# Altium schematic symbol library Master-Slave.SCHLIB: 42 symbols
Pins are listed as number, name and electrical type; pins without a type are passive.

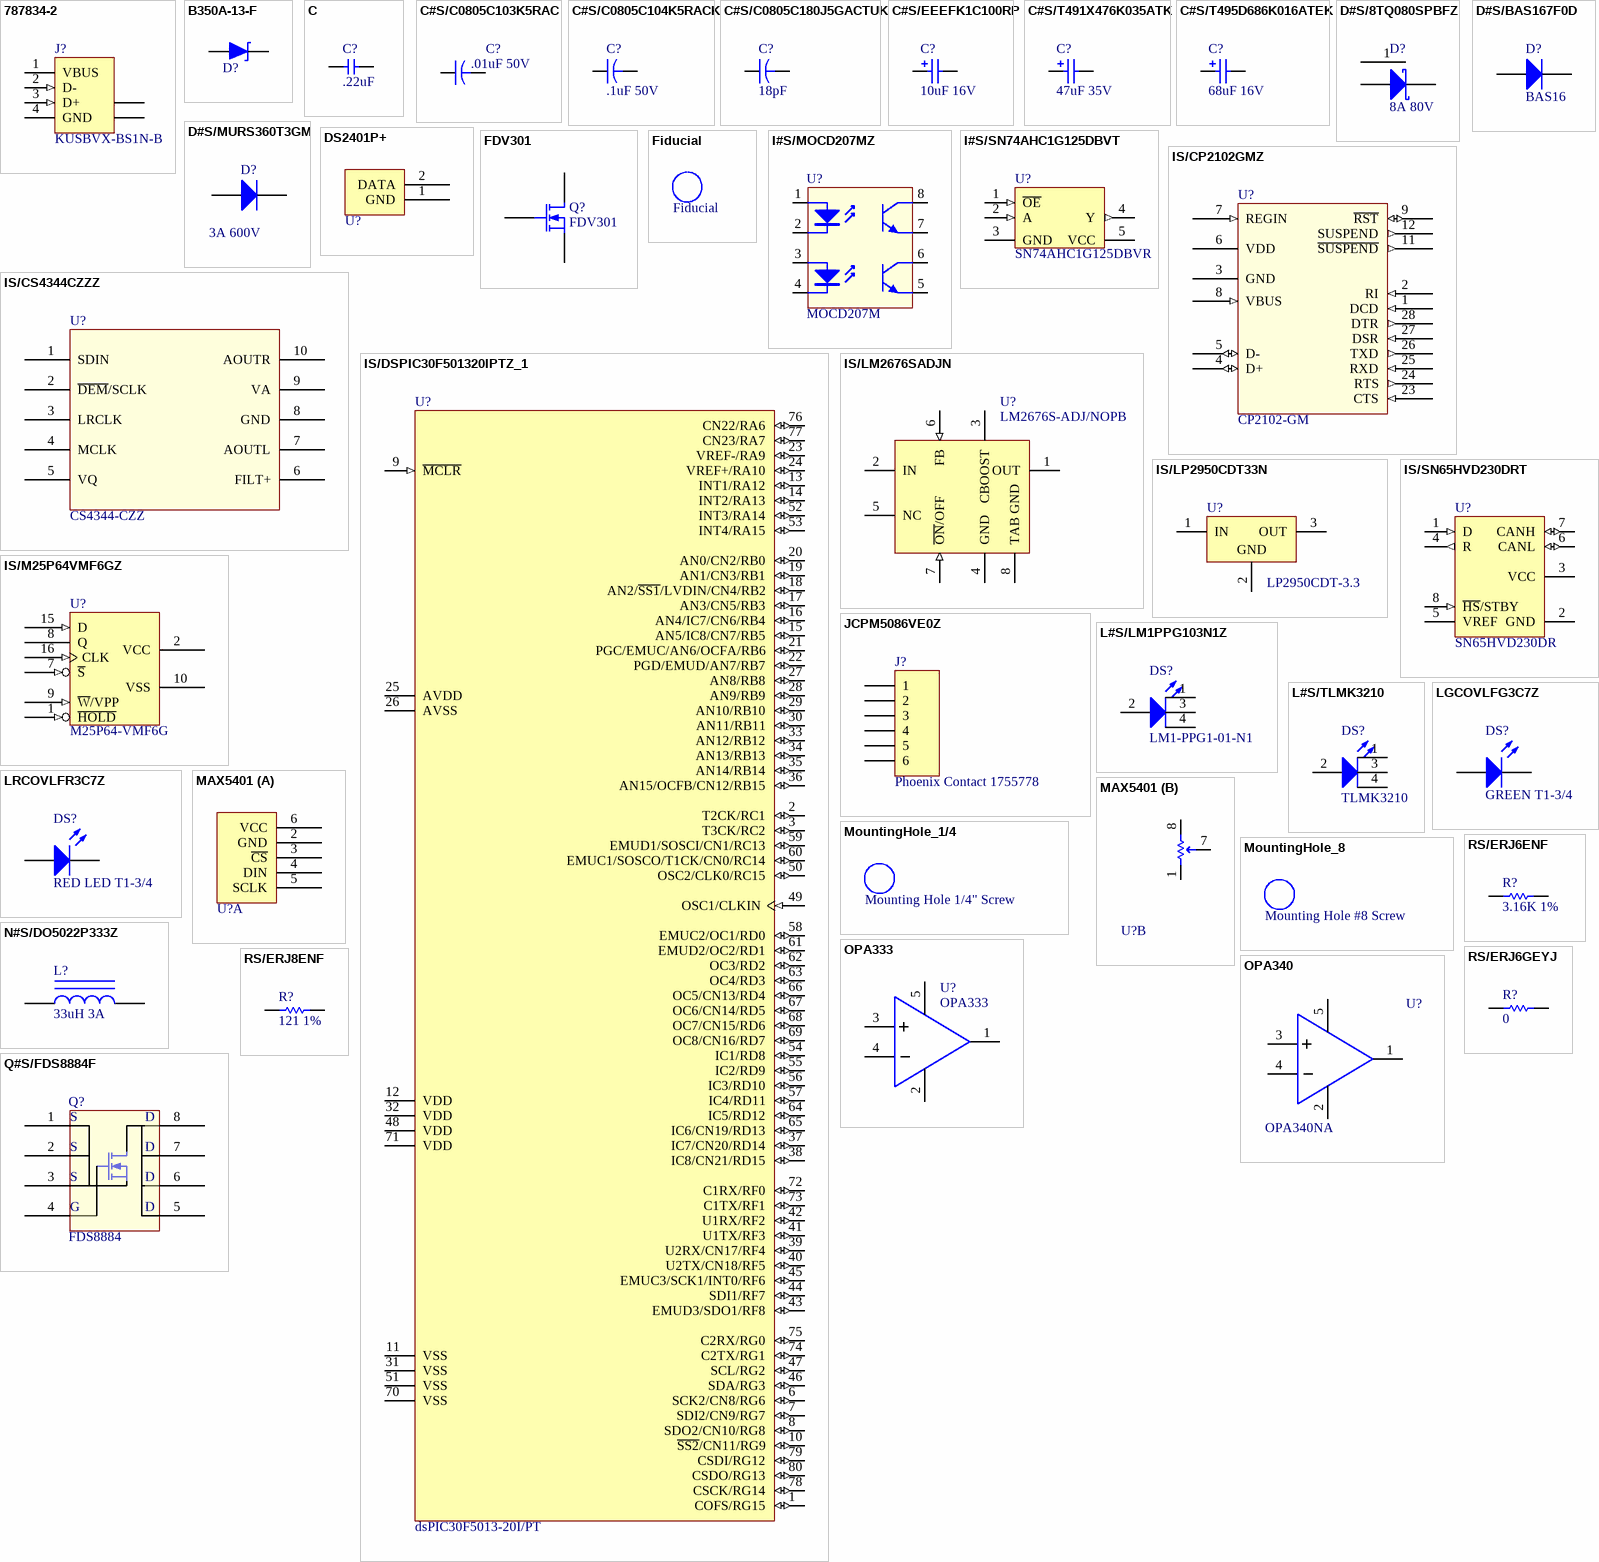
[diagram p0: symbols 787834-2 to RS/ERJ8ENF]

## 787834-2
designator J?, comment KUSBVX-BS1N-B
USB Connectors B TYPE VERT BLK SKT; Manufacturer: Kycon; Source Part Number: 806-KUSBVX-BS1N-B; Manufacturer Part Number: KUSBVX-BS1N-B; Source: Mouser; ROHS Certificate: ROHS-KYCON.pdf; Value: USB Connectors B TYPE VERT BLK SKT
footprint 787834 (Connector; USB1.1, Type B, Thru-Hole; 4 Position; Vertical)
signal-integrity model USB1.1
footprint KUSBVX-BS1N (USB Type B PCB)
pins: 1 VBUS (power) "Power", 2 D- (in) "-DATA", 3 D+ (in) "+DATA", 4 GND (power) "Ground", 5 SHLD "Shield", 6 SHLD "Shield"

## B350A-13-F
designator D?, comment DIODE SCHOTTKY 3A 50V SMA  (value not drawn)
Source Part Number: B350A-FDICT-ND; Manufacturer: Diodes Inc; Manufacturer Part Number: B350A-13-F; Source: Digikey; ROHS Certificate: ROHS-DIODE-INC.pdf; Value: DIODE SCHOTTKY 3A 50V SMA
footprint SMA (DO-214-AC/SMA; 2 C-Bend Leads; Body 5 x 2.7 mm, inc. leads (LxW))
pins: A, C

## C
designator C?, comment value .22uF  (hidden comment: CAP .22UF 25V CERAMIC X7R 0805)
Manufacturer: Panasonic - ECG; Manufacturer Part Number: ECJ-2YB1E224K; Source Part Number: PCC1832CT-ND; Source: DIGIKEY; ROHS Certificate: ROHS-PANASONIC.pdf
footprint 0603 (0603 Generic)
footprint 0805 (0805 Generic)
footprint 1206 (1206 Generic)
footprint C0805
pins: 1, 2

## C#S/C0805C103K5RAC
designator C?, comment .01uF 50V
CAP 10000PF 50V CERAMIC X7R 0805; Manufacturer: Kemet; Manufacturer Part Number: C0805C103K5RACTU; Source Part Number: 399-1158-1-ND; Source: Digikey; ROHS Certificate: ROHS-KEMET-CERAMIC.PDF; Value: CAP 10000PF 50V CERAMIC X7R 0805
simulation model CAP (Capacitor)
signal-integrity model Cap
footprint C0805
pins: 1, 2

## C#S/C0805C104K5RACK
designator C?, comment .1uF 50V
CAP .10UF 50V CERAMIC X7R 0805; Manufacturer: Kemet; Manufacturer Part Number: C0805C104K5RACTU; Source Part Number: 399-1170-1-ND; Source: Digikey; ROHS Certificate: ROHS-KEMET-CERAMIC.PDF; Value: CAP .10UF 50V CERAMIC X7R 0805
simulation model CAP (Capacitor)
signal-integrity model Cap
footprint C0805
pins: 1, 2

## C#S/C0805C180J5GACTUK
designator C?, comment 18pF
CAP CERAMIC 18PF 50V NP0 0805; Manufacturer: Kemet; Manufacturer Part Number: C0805C180J5GACTU; Source Part Number: 399-1112-1-ND; Source: Digikey; ROHS Certificate: ROHS-KEMET-CERAMIC.pdf; Value: CAP CERAMIC 18PF 50V NP0 0805
simulation model CAP (Capacitor)
signal-integrity model Cap
footprint C0805
pins: 1, 2

## C#S/EEEFK1C100RP
designator C?, comment 10uF 16V
CAP ELECT 10UF 16V FK SMD; Manufacturer: Panasonic - ECG; Manufacturer Part Number: EEE-FK1C100R; Source Part Number: PCE3782CT-ND; Source: Digikey; ROHS Certificate: ROHS-PANASONIC.pdf; Value: CAP ELECT 10UF 16V FK SMD
simulation model CAP (Capacitor)
signal-integrity model Cap Pol
footprint C4X5.8
pins: 1, 2
1 alternate drawing of the same symbol

## C#S/T491X476K035ATK
designator C?, comment 47uF 35V
CAPACITOR TANT 47UF 35V 10% SMD 7343-43 (EIA); Manufacturer: Kemet; Manufacturer Part Number: T491X476K035AT; Source Part Number: 399-3821-1-ND; Value: 47uF 35V; Source: Digikey; ROHS Certificate: ROHS-KEMET-TANTALUM.pdf
simulation model CAP (Capacitor)
signal-integrity model T491X
footprint C EIA7343-43 (X) (Capacitor, SM Tantalum; Body 7.3 x 4.3 mm (LxW typ))
footprint CAPACITOR TANT 47UF 35V 10% SMD 7343-43 (EIA
pins: 1, 2
1 alternate drawing of the same symbol

## C#S/T495D686K016ATEK
designator C?, comment 68uF 16V
CAPACITOR TANT 68UF 16V 10% SMD; Manufacturer: Kemet; Manufacturer Part Number: T495D686K016ATE150; Source Part Number: 399-3889-1-ND; Value: CAPACITOR TANT 68UF 16V 10% SMD; Source: Digikey; ROHS Certificate: ROHS-KEMET-TANTALUM.pdf
footprint D (Capacitor, SM Tantalum; Body 7.3 x 4.3 mm (LxW typ))
simulation model CAP (Capacitor)
signal-integrity model T495D
footprint C7343
pins: 1, 2
1 alternate drawing of the same symbol

## D#S/8TQ080SPBFZ
designator D?, comment 8A 80V
DIODE SCHOTTKY 80V 8A D2PAK; Manufacturer: Vishay IR; Manufacturer Part Number: 8TQ080SPBF; Source Part Number: 8TQ080SPBF-ND; Source: Digikey; ROHS Certificate: ROHS-IRF.pdf; Value: DIODE SCHOTTKY 80V 8A D2PAK
simulation model SKYDIODE (Diode)
signal-integrity model D Schottky
footprint D2PAK
footprint Model Name (Model Description)
pins: 1 NC, 2 K, 3 A

## D#S/BAS167F0D
designator D?, comment BAS16
Diodes Inc BAS16 75V 200mA; Manufacturer Part Number: BAS16-7-F; Manufacturer: Diodes Inc; Source: Digikey; Source Part Number: BAS16-7-F; ROHS Certificate: ROHS-DIODES-INC.pdf; Value: Diodes Inc BAS16 75V 200mA
simulation model BAS16 (SUBCKT)
footprint SOT23 (SOT-23; 3 Leads; Body 3.1 x 2.5 mm, inc. leads (LxW max), Alternate Lead Configuration)
pins: 1 A, 3 K

## D#S/MURS360T3GM
designator D?, comment value 3A 600V  (hidden comment: DIODE ULTRA FAST 3A 600V SMC)
Manufacturer: ON Semiconductor; Manufacturer Part Number: MURS360T3G; Source Part Number: MURS360T3GOSCT-ND; Source: Digikey; ROHS Certificate: ROHS-ON-SEMI.PDF
simulation model BAS16 (SUBCKT)
footprint DIODE_SMC (Diode)
pins: A, K

## DS2401P+
designator U?, comment IC SILICON SERIAL NUMBER 6-TSOC  (value not drawn)
Source Part Number: DS2401P+-ND; Manufacturer: Dallas Semiconductor; Manufacturer Part Number: DS2401P+; Value: DS2401P+; Source: Digikey; ROHS Certificate: ROHS-DS2401P+.pdf
footprint TSOC6 (THIN SMALL OUTLINE C-LEAD)
pins: 1 GND, 2 DATA

## FDV301
designator Q?
MOSFET N-CH 25V 220MA SOT-23; Manufacturer: Fairchild Semiconductor; Manufacturer Part Number: FDV301N; Source Part Number: FDV301NCT-ND; Source: Digikey; ROHS Certificate: ROHS-FAIRCHILD.pdf; Value: FDV301
footprint SOT95P245X145-3L (SOT23, 3-Leads, Body 3.1x2.6mm (max), Pitch 0.95mm, IPC High Density)
pins: 1 G, 2 S, 3 D

## Fiducial
designator FID?  (no BOM)
Manufacturer: Manufacturer; Manufacturer Part Number: Manufacturer Part Number; Source: Source; Source Part Number: Source Part Number; ROHS Certificate: ROHS Certificate; Value: Value
footprint Fiducial

## I#S/MOCD207MZ
designator U?, comment MOCD207M
OPTOCOUPLER TRANS-OUT 2CH 8-SOIC; Manufacturer: Fairchild Optoelectronics Group; Source Part Number: MOCD207M-ND; Manufacturer Part Number: MOCD207M; Source: Digikey; ROHS Certificate: ROHS-FAIRCHILD.pdf; Value: OPTOCOUPLER TRANS-OUT 2CH 8-SOIC
footprint SOIC 8 (Small Outline; 8 Leads; Body Width 3.9 mm; Pitch 1.27 mm)
pins: 1 "Anode", 2 "Cathode", 3, 4, 5, 6 "Collector", 7, 8 "Collector"

## I#S/SN74AHC1G125DBVT
designator U?, comment SN74AHC1G125DBVR
TI Tri State Buffer Single Gate; Manufacturer: Texas Instruments; Source Part Number: 296-8744-1-ND; Manufacturer Part Number: SN74AHC1G125DBVR; Source: Digikey; ROHS Certificate: ROHS-TI.pdf; Value: SN74AHC1G125DBVR
footprint SOT23-5 (SOT-23/SC-74A; 5 Leads; Body 3 x 3 mm, inc. leads (LxW max))
pins: 1 ~{OE} (in), 2 A (in), 3 GND (power), 4 Y (out), 5 VCC (power)

## IS/CP2102GMZ
designator U?, comment CP2102-GM
IC USB-TO-UART BRIDGE 28MLP; Manufacturer: Silicon Labs; Source Part Number: 336-1160-ND; Manufacturer Part Number: CP2102-GM; Source: Digikey; ROHS Certificate: ROHS-SILICONLABS.pdf; Value: IC USB-TO-UART BRIDGE 28MLP
footprint QFN28 (Quad Flat No Lead, Plastic, Punch; 28 Terminals; Body 5 x 5 mm; Pitch 0.5 mm)
pins: 1 DCD (in), 2 RI (in), 3 GND (power), 4 D+ (io), 5 D- (io), 6 VDD (power), 7 REGIN (in), 8 VBUS (in), 9 ~{RST} (io), 11 ~{SUSPEND} (out), 12 SUSPEND (out), 23 CTS (in), 24 RTS (out), 25 RXD (in), 26 TXD (out), 27 DSR (in), 28 DTR (out)

## IS/CS4344CZZZ
designator U?, comment CS4344-CZZ
IC DAC 24BIT 192KHZ 10-TSSOP; Manufacturer: Cirrus Logic Inc; Source Part Number: 598-1051-5-ND; Manufacturer Part Number: CS4344-CZZ; Source: Digikey; ROHS Certificate: ROHS-CIRRUS-LOGIC.pdf; Value: IC DAC 24BIT 192KHZ 10-TSSOP
footprint TSSOP\10 (T Shrink Small Outline; 10 Leads; Body Width 3 mm; Pitch 0.5 mm)
pins: 1 SDIN, 2 ~{DEM}/SCLK, 3 LRCLK, 4 MCLK, 5 VQ, 6 FILT+, 7 AOUTL, 8 GND, 9 VA, 10 AOUTR

## IS/DSPIC30F501320IPTZ_1
designator U?, comment dsPIC30F5013-20I/PT
IC DSPIC MCU/DSP 144K 80TQFP; Manufacturer: Microchip Technology; Manufacturer Part Number: DSPIC30F6014A-30I/PT; Source Part Number: DSPIC30F6014A30IP-ND; Source: Digikey; ROHS Certificate: ROHS-MICROCHIP.pdf; Value: IC DSPIC MCU/DSP 144K 80TQFP
footprint TQFP-80 (QFP, Plastic, Thin; 80 Leads; Body 12 x 12 mm; Pitch 0.5 mm; Lead Form 1.0/0.1 mm)
pins: 1 COFS/RG15 (io), 2 T2CK/RC1 (io), 3 T3CK/RC2 (io), 6 SCK2/CN8/RG6 (io), 7 SDI2/CN9/RG7 (io), 8 SDO2/CN10/RG8 (io), 9 ~{MCLR} (in), 10 ~{SS2}/CN11/RG9 (io), 11 VSS (power), 12 VDD (power), 13 INT1/RA12 (io), 14 INT2/RA13 (io), 15 AN5/IC8/CN7/RB5 (io), 16 AN4/IC7/CN6/RB4 (io), 17 AN3/CN5/RB3 (io), 18 AN2/~{SS1}/LVDIN/CN4/RB2 (io), 19 AN1/CN3/RB1 (io), 20 AN0/CN2/RB0 (io), 21 PGC/EMUC/AN6/OCFA/RB6 (io), 22 PGD/EMUD/AN7/RB7 (io), 23 VREF-/RA9 (io), 24 VREF+/RA10 (io), 25 AVDD (power), 26 AVSS (power), 27 AN8/RB8 (io), 28 AN9/RB9 (io), 29 AN10/RB10 (io), 30 AN11/RB11 (io), 31 VSS (power), 32 VDD (power), 33 AN12/RB12 (io), 34 AN13/RB13 (io), 35 AN14/RB14 (io), 36 AN15/OCFB/CN12/RB15 (io), 37 IC7/CN20/RD14 (io), 38 IC8/CN21/RD15 (io), 39 U2RX/CN17/RF4 (io), 40 U2TX/CN18/RF5 (io), 41 U1TX/RF3 (io), 42 U1RX/RF2 (io), 43 EMUD3/SDO1/RF8 (io), 44 SDI1/RF7 (io), 45 EMUC3/SCK1/INT0/RF6 (io), 46 SDA/RG3 (io), 47 SCL/RG2 (io), 48 VDD (power), 49 OSC1/CLKIN (in), 50 OSC2/CLK0/RC15 (io), 51 VSS (power), 52 INT3/RA14 (io), 53 INT4/RA15 (io), 54 IC1/RD8 (io), 55 IC2/RD9 (io), 56 IC3/RD10 (io), 57 IC4/RD11 (io), 58 EMUC2/OC1/RD0 (io), 59 EMUD1/SOSCI/CN1/RC13 (io), 60 EMUC1/SOSCO/T1CK/CN0/RC14 (io), 61 EMUD2/OC2/RD1 (io), 62 OC3/RD2 (io), 63 OC4/RD3 (io), 64 IC5/RD12 (io), 65 IC6/CN19/RD13 (io), 66 OC5/CN13/RD4 (io), 67 OC6/CN14/RD5 (io), 68 OC7/CN15/RD6 (io), 69 OC8/CN16/RD7 (io), 70 VSS (power), 71 VDD (power), 72 C1RX/RF0 (io), 73 C1TX/RF1 (io), 74 C2TX/RG1 (io), 75 C2RX/RG0 (io), 76 CN22/RA6 (io), 77 CN23/RA7 (io), 78 CSCK/RG14 (io), 79 CSDI/RG12 (io), 80 CSDO/RG13 (io)

## IS/LM2676SADJN
designator U?, comment LM2676S-ADJ/NOPB
IC REG SIMPLE SWITCHER TO-263-7; Manufacturer: National Semiconductor; Source Part Number: LM2676S-ADJ-ND; Manufacturer Part Number: LM2676S-ADJ/NOPB; Source: Digikey; ROHS Certificate: ROHS-LM2676SD-ADJNOPB.pdf; Value: IC REG SIMPLE SWITCHER TO-263-
footprint TO263\7
pins: 1 OUT (power), 2 IN (power), 3 CBOOST (power), 4 GND (power), 5 NC, 6 FB (in), 7 ~{ON}/OFF (in), 8 TAB GND (power)

## IS/LP2950CDT33N
designator U?, comment LP2950CDT-3.3
IC REG VOLT MICROPWR 3.3V TO-252; Manufacturer: National Semiconductor; Manufacturer Part Number: LP2950CDT-3.3/NOPB; Source Part Number: LP2950CDT-3.3-ND; Source: Digikey; ROHS Certificate: ROHS-LP2950CDT-3.3NOPB.pdf; Value: IC REG VOLT MICROPWR 3.3V TO-252
footprint D-PAK / TO-252AA (D-PAK/TO-252-AA; 3 Leads (1 Cropped); Body 10.4 (inc. leads) x 6.7 mm (LxW max))
pins: 1 IN (power), 2 GND (power), 3 OUT (power)

## IS/M25P64VMF6GZ
designator U?, comment M25P64-VMF6G
64 MBit Serial SPI NOR FLASH; Manufacturer: STMicroelectronics / Numonyx; Manufacturer Part Number: M25P64-VMF6P; Source: Mouser; Source Part Number: M25P64-VMF6P; ROHS Certificate: ROHS-NUMONYX.pdf; Value: 64 MBit Serial SPI NOR FLASH
footprint SOIC 16 (Small Outline; 16 Leads; Body Width 3.9 mm; Pitch 1.27 mm)
footprint so16w
pins: 1 ~{HOLD} (in), 2 VCC (power), 7 ~{S} (in), 8 Q (hiz), 9 ~{W}/VPP (in), 10 VSS (power), 15 D (in), 16 CLK (in)

## IS/SN65HVD230DRT
designator U?, comment SN65HVD230DR
IC 3.3V CAN TXRX W/STNDBY 8-SOIC; Manufacturer: Texas Instruments; Source Part Number: 296-11654-2-ND; Manufacturer Part Number: SN65HVD230DR; Source: Digikey; ROHS Certificate: ROHS-SN65HVD230DR.pdf; Value: IC 3.3V CAN TXRX W/STNDBY 8-SOIC
footprint SOIC 8 (Small Outline; 8 Leads; Body Width 3.9 mm; Pitch 1.27 mm)
pins: 1 D (in), 2 GND (power), 3 VCC (power), 4 R (out), 5 VREF, 6 CANL (io), 7 CANH (io), 8 ~{HS}/STBY (in)

## JCPM5086VE0Z
designator J?, comment Phoenix Contact 1755778
CONN HEADER VERT 6POS 5.08MM; Source Part Number: 277-1154-ND; Manufacturer: Phoenix Contact; Manufacturer Part Number: 1755778; Source: Digikey; ROHS Certificate: ROHS-PHOENIX.pdf; Value: CONN HEADER VERT 6POS 5.08MM
signal-integrity model Connector
footprint JCPM5086VE0Z (ASI term strip header 6P 5.08mm Vert)
pins: 1, 2, 3, 4, 5, 6

## L#S/LM1PPG103N1Z
designator DS?, comment LM1-PPG1-01-N1
120-degree, 3.3 x 3.5-mm, SMT LED in green color with water-transparent lens; Manufacturer: Cree; Manufacturer Part Number: LM1-PPG1-01-N1; Source: Marktech Optoelectronics; Source Part Number: LM1-PPG1-01-N1; ROHS Certificate: ROHS-CREE.pdf; Value: 120-degree, 3.3 x 3.5-mm, SMT LED in green color with water-transparent lens
simulation model LED1 (Diode)
footprint L#S/TLMK3210Z
pins: 1 K, 2 A, 3 K, 4 K

## L#S/TLMK3210
designator DS?, comment TLMK3210
Vishay Red LED PLCC-3; Manufacturer Part Number: TLMK3210-GS08; Value: Power SMD LED Lamp AllnGaP PLCC-3 Red 2.2V 70mA 60 deg.; Manufacturer: Vishay; Source: Future; Source Part Number: TLMK3210-GS08; ROHS Certificate: ROHS-VISHAY.pdf
simulation model LED1 (Diode)
footprint L#S/TLMK3210Z
pins: 1 K, 2 A, 3 K, 4 K

## LGCOVLFG3C7Z
designator DS?, comment GREEN T1-3/4
LED 525NM ROUND GREEN 5MM; Manufacturer: TT Electronics/Optek Technology; Manufacturer Part Number: OVLFG3C7; Source Part Number: 365-1181-ND; Source: Digikey; ROHS Certificate: ROHS-OPTEK.pdf; Value: LED 525NM ROUND GREEN 5MM
simulation model LED1 (Diode)
footprint LED T1-3/4 Flush
pins: 1 A, 2 K

## LRCOVLFR3C7Z
designator DS?, comment RED LED T1-3/4
LED 631NM TAPERED RED 5MM; Manufacturer: TT Electronics/Optek Technology; Manufacturer Part Number: OVLGS0C8B9; Source Part Number: 365-1189-ND; Source: Digikey; ROHS Certificate: ROHS-OPTEK.pdf; Value: LED 631NM TAPERED RED 5MM
simulation model LED1 (Diode)
footprint LED T1-3/4 Flush
pins: 1 A, 2 K

## MAX5401
designator U?, comment IC DIGITAL POT 256-TAP SOT23-8  (value not drawn)
Manufacturer: Maxim Integrated Products; Manufacturer Part Number: MAX5401EKA+T; Source Part Number: MAX5401EKA+TCT-ND; Value: MAX5401EKA+T; Source: Digikey; ROHS Certificate: ROHS-MAXIM.pdf
footprint SOT95P245X110-*L (SOT23, 8-Leads, Body 3.1x2.6mm (max), Pitch 0.95mm, IPC High Density)
part A pins: 2 GND, 3 ~{CS}, 4 DIN, 5 SCLK, 6 VCC
part B pins: 1, 7, 8

## MountingHole_1/4
designator M?, comment Mounting Hole 1/4" Screw  (no BOM)
Manufacturer: Manufacturer; Manufacturer Part Number: Manufacturer Part Number; Source: Source; Source Part Number: Source Part Number; ROHS Certificate: ROHS Certificate; Value: Value
footprint MHole250

## MountingHole_8
designator M?, comment Mounting Hole #8 Screw  (no BOM)
Manufacturer: Manufacturer; Manufacturer Part Number: Manufacturer Part Number; Source: Source; Source Part Number: Source Part Number; ROHS Certificate: ROHS Certificate; Value: Value
footprint MHole#8 (Mounting Hole for #8 screw)

## N#S/DO5022P333Z
designator L?, comment 33uH 3A
33uH 3A Surface Mount Inductor; Manufacturer: CoilCraft; Manufacturer Part Number: DO5022P-333MLB; Value: 33uH 3A Surface Mount; Source: CoilCraft; Source Part Number: DO5022P-333MLB; ROHS Certificate: ROHS-COILCRAFT-DO5022.pdf; Value: Value
simulation model INDUCTOR (Inductor)
signal-integrity model Inductor Iron
footprint IND/DO5022
pins: 1, 2

## OPA333
designator U?
footprint SOT95P245X145-5L (SOT23, 5-Leads, Body 3.1x2.6mm (max), Pitch 0.95mm, IPC High Density)
pins: 1 OUT, 2 GND, 3 +, 4 -, 5 VCC

## OPA340
designator U?, comment value OPA340NA  (hidden comment: IC SINGLE SUPPLY OPAMP SOT-23-5)
Manufacturer: Texas Instruments; Manufacturer Part Number: OPA340NA/250; Source Part Number: OPA340NACT-ND; Source: Digikey; ROHS Certificate: ROHS-TI.pdf
footprint SOT95P245X145-5L (SOT23, 5-Leads, Body 3.1x2.6mm (max), Pitch 0.95mm, IPC High Density)
pins: 1 OUT, 2 GND, 3 +, 4 -, 5 VCC

## Q#S/FDS8884F
designator Q?, comment FDS8884
MOSFET N-CH 30V 8.5A 8-SOIC; Manufacturer: Fairchild Semiconductor; Source Part Number: FDS8884CT-ND; Manufacturer Part Number: FDS8884; Source: Digikey; ROHS Certificate: ROHS-FAIRCHILD.pdf; Value: MOSFET N-CH 30V 8.5A 8-SOIC
simulation model NMOS (MOSFET-N)
footprint SO8
pins: 1 S, 2 S, 3 S, 4 G, 5 D, 6 D, 7 D, 8 D

## RS/ERJ6ENF
designator R?, comment 3.16K 1%
RES 3.16K OHM 1/8W 1% 0805 SMD; Manufacturer: Panasonic - ECG; Manufacturer Part Number: ERJ-6ENF3161V; Source Part Number: P3.16KCCT-ND; Value: RES 3.16K OHM 1/8W 1% 0805 SMD; Source: Digikey; ROHS Certificate: ROHS Certificate
simulation model RESISTOR (Resistor)
signal-integrity model Res
footprint R0805
pins: 1, 2

## RS/ERJ6GEYJ
designator R?, comment 0
RES 0.0 OHM 1/8W 5% 0805 SMD; Manufacturer: Panasonic - ECG; Manufacturer Part Number: ERJ-6GEY0R00V; Source Part Number: P0.0ACT-ND; Value: RES 0.0 OHM 1/8W 5% 0805 SMD; Source: Digikey; ROHS Certificate: ROHS-PANASONIC.pdf
simulation model RESISTOR (Resistor)
signal-integrity model Res
footprint R0805
pins: 1, 2

## RS/ERJ8ENF
designator R?, comment 121 1%
RES 121 OHM 1/4W 1% 1206 SMD; Manufacturer: Panasonic - ECG; Manufacturer Part Number: ERJ-8ENF1210V; Source Part Number: P121FCT-ND; Value: RES 121 OHM 1/4W 1% 1206 SMD; Source: Digikey; ROHS Certificate: ROHS-PANASONIC.pdf
simulation model RESISTOR (Resistor)
signal-integrity model Res
footprint R1206
pins: 1, 2

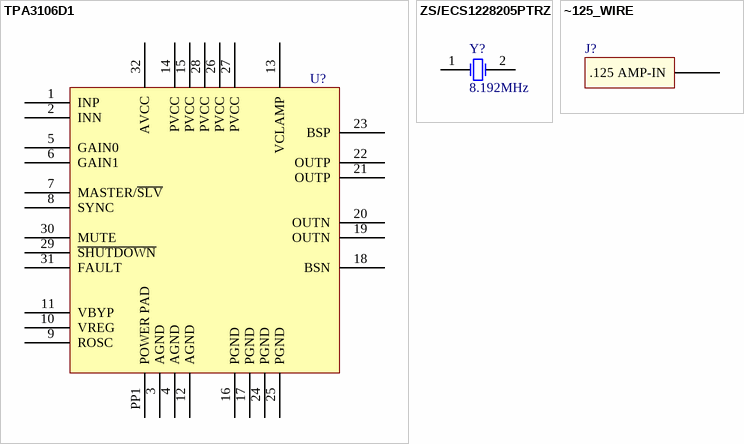
[diagram p1: symbols TPA3106D1 to ~125_WIRE]

## TPA3106D1
designator U?, comment IC AUDIO PWR AMP 40W D 32-HLQFP  (value not drawn)
Source Part Number: 296-22976-1-ND; Manufacturer: AVX Corporation; Manufacturer Part Number: TPA3106D1VFPR; Value: TPA3106D; Source: Digikey; ROHS Certificate: ROHS-TI-TPA3106D.pdf
footprint S-PQFP-G32 (TQFP, 32-Leads, Body 9.2x9.2mm (max), Pitch 0.80mm, IPC High Density)
pins: 1 INP, 2 INN, 3 AGND, 4 AGND, 5 GAIN0, 6 GAIN1, 7 MASTER/~{SLV}, 8 SYNC, 9 ROSC, 10 VREG, 11 VBYP, 12 AGND, 13 VCLAMP, 14 PVCC, 15 PVCC, 16 PGND, 17 PGND, 18 BSN, 19 OUTN, 20 OUTN, 21 OUTP, 22 OUTP, 23 BSP, 24 PGND, 25 PGND, 26 PVCC, 27 PVCC, 28 PVCC, 29 ~{SHUTDOWN}, 30 MUTE, 31 FAULT, 32 AVCC, PP1 POWER PAD

## ZS/ECS1228205PTRZ
designator Y?, comment 8.192MHz
CRYSTAL 8.192MHZ 18PF FUND SMD; Manufacturer: Abracon Corporation; Manufacturer Part Number: ABLS-8.192MHZ-B2-T; Source Part Number: 535-9090-2-ND; Source: Digikey; ROHS Certificate: ROHS-ABRACON.pdf; Value: CRYSTAL 8.192MHZ 18PF FUND SMD
footprint XTSL\CSM-7
simulation model XTAL (SUBCKT)
pins: 1 OSC1, 2 OSC2

## ~125_WIRE
designator J?  (value not drawn)  (no BOM)
Manufacturer: Manufacturer; Manufacturer Part Number: Manufacturer Part Number; Source: Source; Source Part Number: Source Part Number; ROHS Certificate: ROHS Certificate; Value: Value
footprint WIRE_125 (Hole for .125 AMP-IN)
pins: 1 .125 AMP-IN